# EAGLE library part ATTINY*07 (library atmel)
8-bit AVR tiny-0-series Microcontroller CPU: two-cycle hardware multiplier single pin Unified Program Debug Interface (UPDI) programmable watchdog timer with separate on-chip oscillator programmable brown-out detection circuit with software disable function internal calibrated oscillator Status aktiv aktiv ATtiny807 ATtiny1607 General purpose working registers 32 SRAM 512 B 1 kB Program flash memory 8 kB 16 kB EEPROM 128 B 256 B 16-bit Timer/Counter type A (TCA) 1 16-bit Timer/Counter type B (TCB) 1 Real Time Counter (RTC) 1 USART 1 SPI 1 TWI (I2C) 1 ADC 1 ADC channels 12 ADC resolution 10 bit AC 1 Custom Configurable Logic/Lookup tables 1/2 Window Watchdog 1 Event System channels 3 General purpose I/O 22 External interrupts 22 CRCSCAN 1 Operating voltage 1.8 ... 5.5 V Speed grade 0 ... 5 MHz @ 1.8 ... 5.5 V 0 ... 10 MHz @ 2.7 ... 5.5 V 0 ... 20 MHz @ 4.5 ... 5.5 V Clock options internal 16/20 MHz low power RC oscillator internal 32.768 kHz ultra low power RC oscillator external clock input Pin Name Other/Special ADC0 AC0 USART0 SPI0 TWI0 TCA0 TCB0 CCL PA0 !RESET, UPDI AIN0 LUT0-IN0 PA1 AIN1 TxD MOSI SDA LUT0-IN1 PA2 EVOUT0 AIN2 RxD MISO SCL LUT0-IN2 PA3 EXTCLK AIN3 XCK SCK WO3 PA4 AIN4 XDIR !SS WO4 LUT0-OUT PA5 AIN5 OUT WO5 WO PA6 AIN6 AINN0 PA7 AIN7 AINP0 LUT1-OUT PB7 PB6 PB5 CLKOUT AIN8 AINP1 WO2 PB4 AIN9 AINN1 WO1 LUT0-OUT PB3 RxD WO0 PB2 EVOUT1 TxD WO2 PB1 AIN10 XCK SDA WO1 PB0 AIN11 XDIR SCL WO0 PC0 SCK WO PC1 MISO LUT1-OUT PC2 EVOUT2 MOSI PC3 !SS WO3 LUT1-IN0 PC4 WO4 LUT1-IN1 PC5 WO5 LUT1-IN2
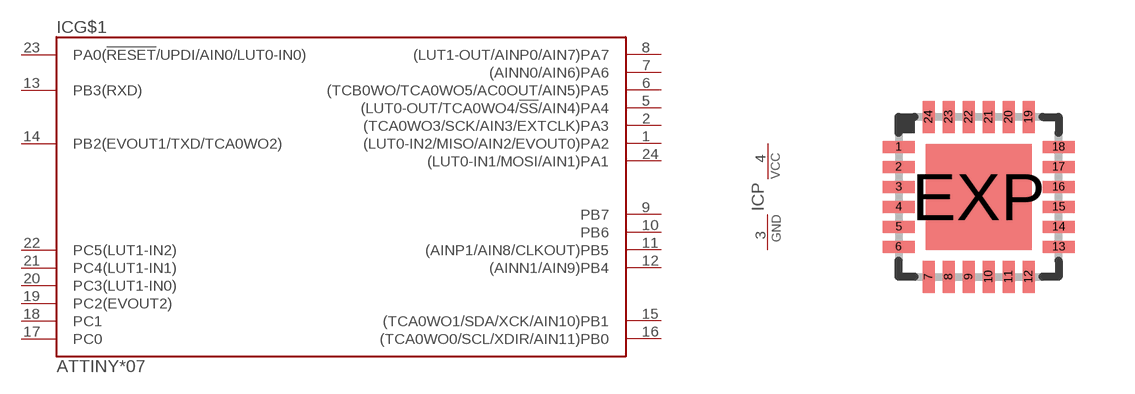
[diagram p87: symbol with the pads of QFN24_4X4_0.50; footprint QFN24_4X4_0.50]

Designator prefix IC; gates G$1=TINY1607 P=PWR

## ATTINY1607-MN, ATTINY807-MN  [QFN24_4X4_0.50]
1  G$1:(LUT0-IN2/MISO/AIN2/EVOUT0)PA2
2  G$1:(TCA0WO3/SCK/AIN3/EXTCLK)PA3
3  P:GND  pwr
4  P:VCC  pwr
5  G$1:(LUT0-OUT/TCA0WO4/!SS!/AIN4)PA4
6  G$1:(TCB0WO/TCA0WO5/AC0OUT/AIN5)PA5
7  G$1:(AINN0/AIN6)PA6
8  G$1:(LUT1-OUT/AINP0/AIN7)PA7
9  G$1:PB7
10  G$1:PB6
11  G$1:(AINP1/AIN8/CLKOUT)PB5
12  G$1:(AINN1/AIN9)PB4
13  G$1:PB3(RXD)
14  G$1:PB2(EVOUT1/TXD/TCA0WO2)
15  G$1:(TCA0WO1/SDA/XCK/AIN10)PB1
16  G$1:(TCA0WO0/SCL/XDIR/AIN11)PB0
17  G$1:PC0
18  G$1:PC1
19  G$1:PC2(EVOUT2)
20  G$1:PC3(LUT1-IN0)
21  G$1:PC4(LUT1-IN1)
22  G$1:PC5(LUT1-IN2)
23  G$1:PA0(!RESET!/UPDI/AIN0/LUT0-IN0)
24  G$1:(LUT0-IN1/MOSI/AIN1)PA1

## ATTINY1607-MF, ATTINY807-MF  [QFN24_4X4_0.50]
Pads as for QFN24_4X4_0.50

## Footprint QFN24_4X4_0.50 (pad centres in mm)
24-Lead Plastic QFN, 4mm x 4mm body, 0.5mm lead pitch, exposed pad Microchip Code: ZHA
smd 0.8 x 0.3: 1 -2,1.25; 2 -2,0.75; 3 -2,0.25; 4 -2,-0.25; 5 -2,-0.75; 6 -2,-1.25; 13 2,-1.25; 14 2,-0.75; 15 2,-0.25; 16 2,0.25; 17 2,0.75; 18 2,1.25
smd 0.3 x 0.8: 7 -1.25,-2; 8 -0.75,-2; 9 -0.25,-2; 10 0.25,-2; 11 0.75,-2; 12 1.25,-2; 19 1.25,2; 20 0.75,2; 21 0.25,2; 22 -0.25,2; 23 -0.75,2; 24 -1.25,2
smd 2.65 x 2.65: EXP 0,0